# Altium schematic symbol library INA240A2QDRQ1.SchLib: 1 symbol
Pins are listed as number, name and electrical type; pins without a type are passive.

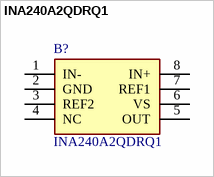
[diagram p0: symbol INA240A2QDRQ1]

## INA240A2QDRQ1
designator B?
Automotive, High/Low Side, Bi-Directional Zer-Drift Current Sense Amp w/ Enhanced PWM Rejection; Manufacturer_Name: Texas Instruments; Geometry.Height: 1.75mm; Mouser Part Number: 595-INA240A2QDRQ1; Mouser Price/Stock: https://www.mouser.co.uk/ProductDetail/Texas-Instruments/INA240A2QDRQ1?qs=yBt6ao%2FxsTzBm5ctQUpr0g%3D%3D; Manufacturer_Part_Number: INA240A2QDRQ1; Datasheet Link: http://www.ti.com/lit/gpn/ina240-q1
footprint SOIC127P600X175-8N
pins: 1 IN-, 2 GND, 3 REF2, 4 NC, 5 OUT, 6 VS, 7 REF1, 8 IN+